# Altium footprint library to.PcbLib: 51 footprints (part 4 of 4)
Each footprint in its own frame and in the unit in brackets; x right, y up, seen from the top. Pads: shape width x height; smd on the part's side, far side on the other; paste and mask are expansions set on the pad; w line width, h text height; cw(c..) or ccw(c..) is an arc to the next point about the centre after c.
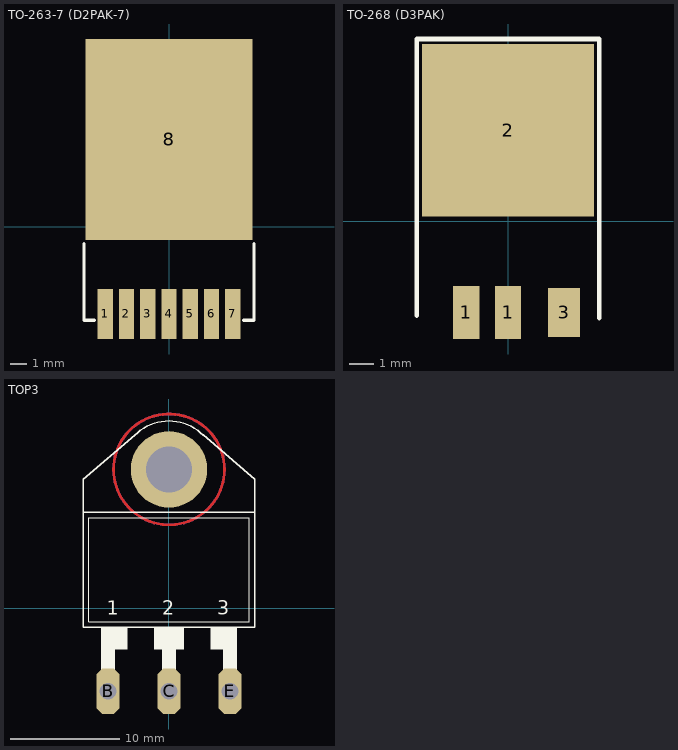
[diagram p3: the footprints below, top view; thin cyan lines are the x and y axes]

## TO-263-7 (D2PAK-7) [mm]
pads (8):
  rect 0.91x3 smd: 1(-3.81,-5.207) 2(-2.54,-5.207) 3(-1.27,-5.207) 4(0,-5.207) 5(1.27,-5.207) 6(2.54,-5.207) 7(3.81,-5.207)
  rect 10x12 smd: 8(0,5.207)
Top Overlay:
  lines w0.2: -5.08,-1.016 -5.08,-5.588 -4.445,-5.588 ; 4.445,-5.588 5.08,-5.588 5.08,-1.016
3D body "SW3dPS-TO263-7-1.STEP": height 4.78, standoff -0.02, extent -5,-5.625 5,10.045

## TO-268 (D3PAK) [mm]
pads (4):
  rect 1.07x2.16 smd: 1(-1.7,-3.7) 1(0,-3.7)
  rect 7x7 smd: 2(0,3.7)
  rect 1.3x2 smd: 3(2.285,-3.7)
Top Overlay:
  lines w0.2: -3.708,-3.818 -3.708,7.408 3.708,7.408 3.708,-3.92
3D body "SW3dPS-TO263-3.STEP": height 4.78, standoff -0.02, extent -4.7,-4.69 5.3,10.98
3D body "User Library-TO545P1905X510_HS-3.step": height 5.1, standoff 0, extent 6.858,-4.445 22.86,14.605

## TOP3 [mm]
pads (4):
  oct 2.096x4.191 hole 1.524: B(-5.583,-7.616) C(0.005,-7.616) E(5.593,-7.616)
  round 7 hole 4.2 unplated: ""(0.005,12.704)
Top Layer:
  circle w0.254: c0.005,12.704 r5.08
Bottom Layer:
  circle w0.254: c0.005,12.704 r5.08
Top Overlay:
  rectangle: -6.218,-3.806 -3.805,-1.774
  rectangle: -1.392,-3.806 1.402,-1.774
  rectangle: 3.815,-3.806 6.228,-1.774
  rectangle: -6.218,-5.711 -4.948,-3.806
  rectangle: -6.218,-7.616 -4.948,-5.711
  rectangle: -0.63,-5.711 0.64,-3.806
  rectangle: -0.63,-7.616 0.64,-5.711
  rectangle: 4.958,-5.711 6.228,-3.806
  rectangle: 4.958,-7.616 6.228,-5.711
  lines w0.051: -7.361,-1.266 7.371,-1.266 7.371,8.259 -7.361,8.259 -7.361,-1.266
  lines w0.127: -3.138,15.847 cw(c0.005,12.704) 0.005,17.149 cw(c0.005,12.704) 3.148,15.847 ; -3.119,15.853 -7.869,11.815 -7.869,8.767 ; 3.129,15.879 7.879,11.815 7.879,8.767 ; -7.869,8.767 -7.869,-1.774 7.879,-1.774 7.879,8.767 ; -7.869,8.767 7.879,8.767
  text "1" at -5.71,-0.631 h1.27
  text "2" at -0.63,-0.631 h1.27
  text "3" at 4.45,-0.631 h1.27
3D body "User Library-TOP3.step": height 4.5, standoff 0, extent -7.8,-18.85 7.7,17.05